# EAGLE library part DIL6 (library HyTechDevices2)
Dual In Line / Socket
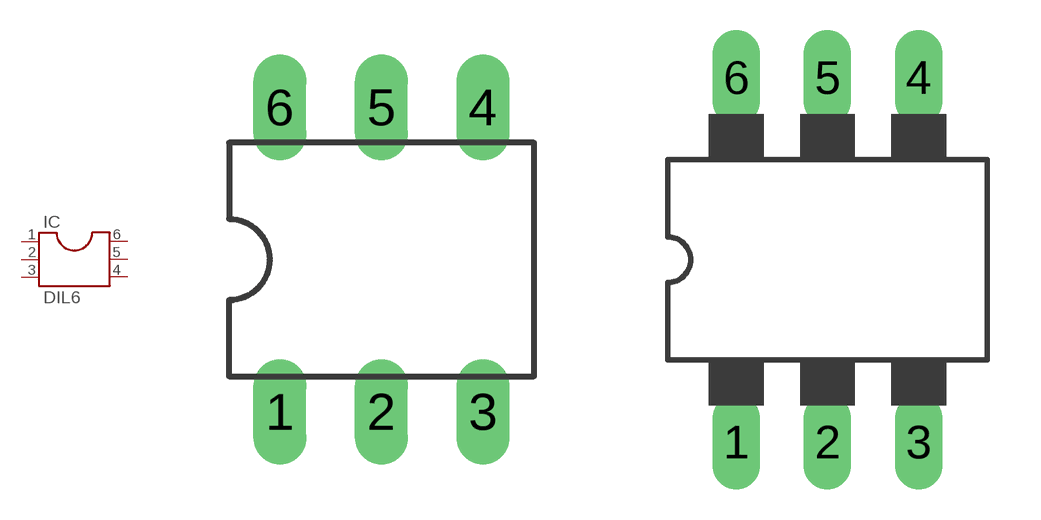
[diagram p12: symbol with the pads of DIL06; footprints DIL06, DIL06-4]

Designator prefix IC

## DIL6  [DIL06]
1  1  pas
2  2  pas
3  3  pas
4  4  pas
5  5  pas
6  6  pas

## DIL6/4  [DIL06-4]
Pads as for DIL06

## DIL6S  [SOCKET-06]
Pads as for DIL06

## Footprint DIL06 (pad centres in mm)
Dual In Line Package
drill 0.813 long: 1 -2.54,-3.81; 2 0,-3.81; 3 2.54,-3.81; 4 2.54,3.81; 5 0,3.81; 6 -2.54,3.81

## Footprint DIL06-4 (pad centres in mm)
Dual In Line Package 0.4 inch
drill 0.813 long: 1 -2.54,-5.08; 2 0,-5.08; 3 2.54,-5.08; 4 2.54,5.08; 5 0,5.08; 6 -2.54,5.08

## Footprint SOCKET-06 (pad centres in mm)
Dual In Line Socket
drill 0.813 long: 1 -2.54,-3.81; 2 0,-3.81; 3 2.54,-3.81; 4 2.54,3.81; 5 0,3.81; 6 -2.54,3.81